# Altium footprint library TO230P250X650X900-3P.PcbLib: 1 footprints
Each footprint in its own frame and in the unit in brackets; x right, y up, seen from the top. Pads: shape width x height; smd on the part's side, far side on the other; paste and mask are expansions set on the pad; w line width, h text height; cw(c..) or ccw(c..) is an arc to the next point about the centre after c.
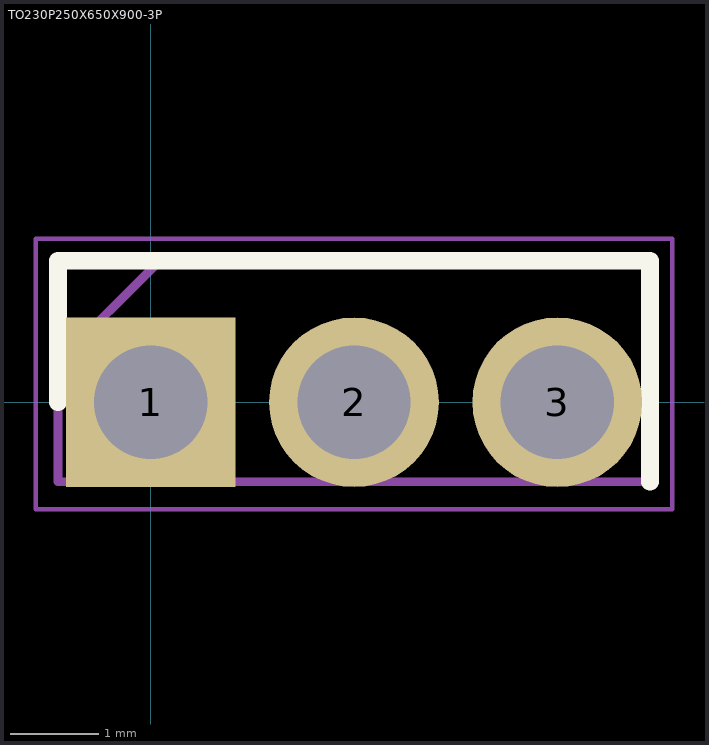
[diagram p0: the footprint, top view; thin cyan lines are the x and y axes]

## TO230P250X650X900-3P [mm]
pads (3):
  rect 1.92x1.92 / inner round 1.92 / far side rect 1.92x1.92 hole 1.28: 1(0,0)
  round 1.92 hole 1.28: 2(2.3,0) 3(4.6,0)
Top Overlay:
  lines w0.2: -1.05,0 -1.05,1.6 5.65,1.6 5.65,-0.9
Mechanical 15:
  lines w0.1: -1.05,0.45 0.1,1.6 ; -1.05,-0.9 5.65,-0.9 5.65,1.6 -1.05,1.6 -1.05,-0.9
Mechanical 20:
  lines w0.05: -1.3,-1.21 5.9,-1.21 5.9,1.85 -1.3,1.85 -1.3,-1.21